# Altium footprint library Aluminum Electrolytic Caps.PcbLib: 3 footprints
Each footprint in its own frame and in the unit in brackets; x right, y up, seen from the top. Pads: shape width x height; smd on the part's side, far side on the other; paste and mask are expansions set on the pad; w line width, h text height; cw(c..) or ccw(c..) is an arc to the next point about the centre after c.
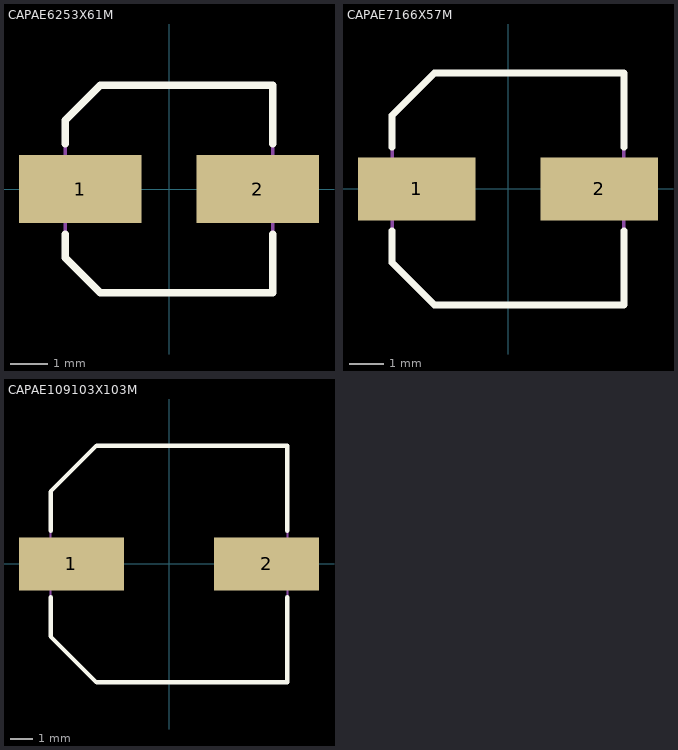
[diagram p0: the footprints below, top view; thin cyan lines are the x and y axes]

## CAPAE6253X61M [mm] "Aluminum Electrolytic Capacitor, Body 5.30x5.30x6.10mm, IPC Low Density"
height 6.1
pads (2):
  rect 3.25x1.8 smd: 1(-2.35,0) 2(2.35,0)
Top Overlay:
  lines w0.2: -2.75,-1.2 -2.75,-1.825 -1.825,-2.75 2.75,-2.75 2.75,-1.2 ; -2.75,1.2 -2.75,1.825 -1.825,2.75 2.75,2.75 2.75,1.2
Mechanical 13:
  lines w0.1: -2.75,-1.825 -1.825,-2.75 2.75,-2.75 2.75,2.75 -1.825,2.75 -2.75,1.825 -2.75,-1.825
3D body "CAPAE6253X61M.step": height 6.1, standoff 0, extent -3.125,-2.75 3.125,2.75

## CAPAE7166X57M [mm] "Aluminum Electrolytic Capacitor, Body 6.60x6.60x5.70mm, IPC Low Density"
height 5.7
pads (2):
  rect 3.45x1.85 smd: 1(-2.675,0) 2(2.675,0)
Top Overlay:
  lines w0.2: -3.4,-1.225 -3.4,-2.163 -2.163,-3.4 3.4,-3.4 3.4,-1.225 ; -3.4,1.225 -3.4,2.163 -2.163,3.4 3.4,3.4 3.4,1.225
Mechanical 13:
  lines w0.1: -3.4,-2.163 -2.163,-3.4 3.4,-3.4 3.4,3.4 -2.163,3.4 -3.4,2.163 -3.4,-2.163
3D body "CAPAE7166X57M.step": height 5.7, standoff -0.6, extent -3.55,-3.4 3.55,3.4

## CAPAE109103X103M [mm] "Aluminum Electrolytic Capacitor, Body 10.30x10.30x10.30mm, IPC Low Density"
height 10.3
pads (2):
  rect 4.65x2.35 smd: 1(-4.325,0) 2(4.325,0)
Top Overlay:
  lines w0.2: -5.25,-1.475 -5.25,-3.213 -3.213,-5.25 5.25,-5.25 5.25,-1.475 ; -5.25,1.475 -5.25,3.212 -3.213,5.25 5.25,5.25 5.25,1.475
Mechanical 13:
  lines w0.1: -5.25,-3.213 -3.213,-5.25 5.25,-5.25 5.25,5.25 -3.213,5.25 -5.25,3.212 -5.25,-3.213
3D body "CAPAE109103X103M.step": height 10.3, standoff 0, extent -5.45,-5.25 5.45,5.25